# Altium footprint library BridgeRectifier.PcbLib: 1 footprints
Each footprint in its own frame and in the unit in brackets; x right, y up, seen from the top. Pads: shape width x height; smd on the part's side, far side on the other; paste and mask are expansions set on the pad; w line width, h text height; cw(c..) or ccw(c..) is an arc to the next point about the centre after c.
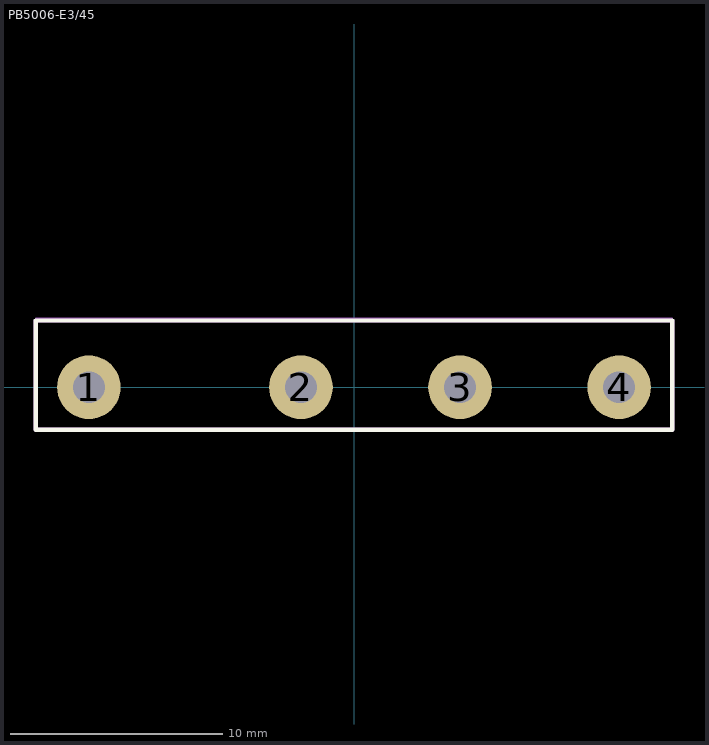
[diagram p0: the footprint, top view; thin cyan lines are the x and y axes]

## PB5006-E3/45 [mm] "Bridge Rectifier Single Phase Standard 600 V Through Hole isoCINK+™ PB"
pads (4):
  round 3 hole 1.5: 1(-12.5,0) 2(-2.5,0) 3(5,0) 4(12.5,0)
Top Overlay:
  lines w0.2: -15,-2 -15,3.15 15,3.15 15,-2 -15,-2
Mechanical 13:
  lines w0.2: -15,-2 -15,3.15 15,3.15 15,-2 -15,-2
Mechanical 15:
  lines w0.1: -15,-2 -15,3.25 15,3.25 15,-2 -15,-2
3D body "GBJ2510.STEP": height 24.5, standoff -13.8, extent -15,-1.35 15,3.25